# Altium schematic symbol library fst.SchLib: 9 symbols
Pins are listed as number, name and electrical type; pins without a type are passive.

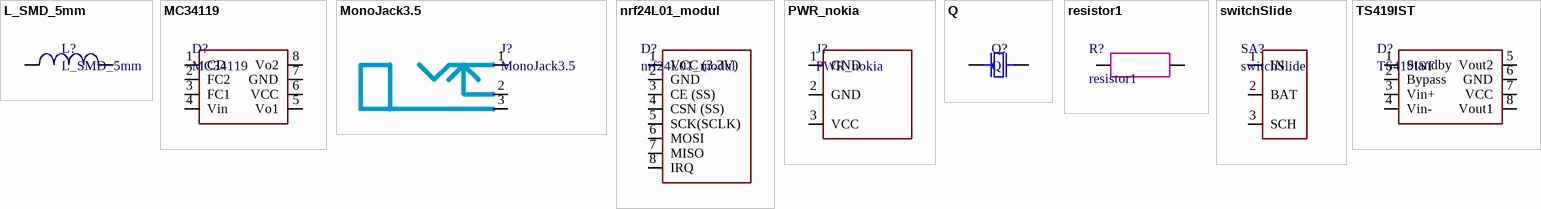
[diagram p0: symbols L_SMD_5mm to TS419IST]

## L_SMD_5mm
designator L?
footprint L_SMD_4.8
pins: 1, 2

## MC34119
designator D?
footprint SO-8 (PLASTIC PACKAGE  CASE 751–05  (SO–8)  ISSUE P)
pins: 1 CD, 2 FC2, 3 FC1, 4 Vin, 5 Vo1, 6 VCC, 7 GND, 8 Vo2

## MonoJack3.5
designator J?
footprint MonoJack3.5 (1/8" 3.5mm Phono/Mono Phone Panel Jack)
pins: 1, 2, 3

## nrf24L01_modul
designator D?
footprint 24L01-M
footprint 24L01-2x4
pins: 1 VCC (3.3V), 2 GND, 3 CE (SS), 4 CSN (SS), 5 SCK(SCLK), 6 MOSI, 7 MISO, 8 IRQ

## PWR_nokia
designator J?
footprint PowerNokia
pins: 1 GND, 2 GND, 3 VCC

## Q
designator Q?
footprint HC49S_Q
pins: 1, 2

## resistor1
designator R?
footprint r_0805
pins: 1, 2

## switchSlide
designator SA?
footprint switchSplit_13mm (SK12N16E04-2000)
pins: 1 IN, 2 BAT, 3 SCH

## TS419IST
designator D?
footprint miniSO-8 (miniSOP, 8-Leads, Body 3,00x3,00mm, Pitch 0,65mm, IPC Medium Density)
pins: 1 Standby, 2 Bypass, 3 Vin+, 4 Vin-, 5 Vout2, 6 GND, 7 VCC, 8 Vout1